# EAGLE library part MPU9250 (library SMARTBALL_v1)
MPU-9250 Invensense IMU Chipset
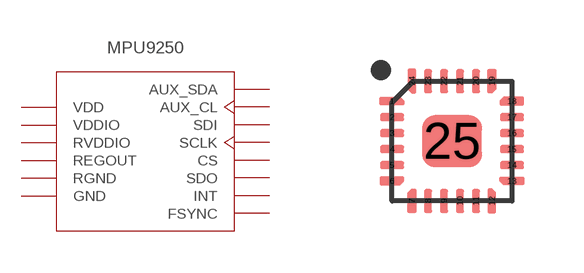
[diagram p2: symbol with the pads of QFN24G-0.4-3X3MM; footprint QFN24G-0.4-3X3MM]

Designator prefix -

## MPU9250QFN24G  [QFN24G-0.4-3X3MM]
1  RVDDIO
7  AUX_CL
8  VDDIO
9  SDO
10  REGOUT
11  FSYNC
12  INT
13  VDD
18  GND
20  RGND
21  AUX_SDA
22  CS
23  SCLK
24  SDI

## Footprint QFN24G-0.4-3X3MM (pad centres in mm)
smd 0.2 x 0.15: 1 -1.5,1; 6 -1.5,-1; 13 1.5,-1; 18 1.5,1
smd 0.6 x 0.2: 2 -1.5,0.6; 3 -1.5,0.2; 4 -1.5,-0.2; 5 -1.5,-0.6; 14 1.5,-0.6; 15 1.5,-0.2; 16 1.5,0.2; 17 1.5,0.6
smd 0.15 x 0.2: 7 -1,-1.5; 12 1,-1.5; 19 1,1.5; 24 -1,1.5
smd 0.2 x 0.6: 8 -0.6,-1.5; 9 -0.2,-1.5; 10 0.2,-1.5; 11 0.6,-1.5; 20 0.6,1.5; 21 0.2,1.5; 22 -0.2,1.5; 23 -0.6,1.5
smd 1.5 x 1.3: 25 0,0